# Altium footprint library RD15HVF1.PcbLib: 2 footprints
Each footprint in its own frame and in the unit in brackets; x right, y up, seen from the top. Pads: shape width x height; smd on the part's side, far side on the other; paste and mask are expansions set on the pad; w line width, h text height; cw(c..) or ccw(c..) is an arc to the next point about the centre after c.
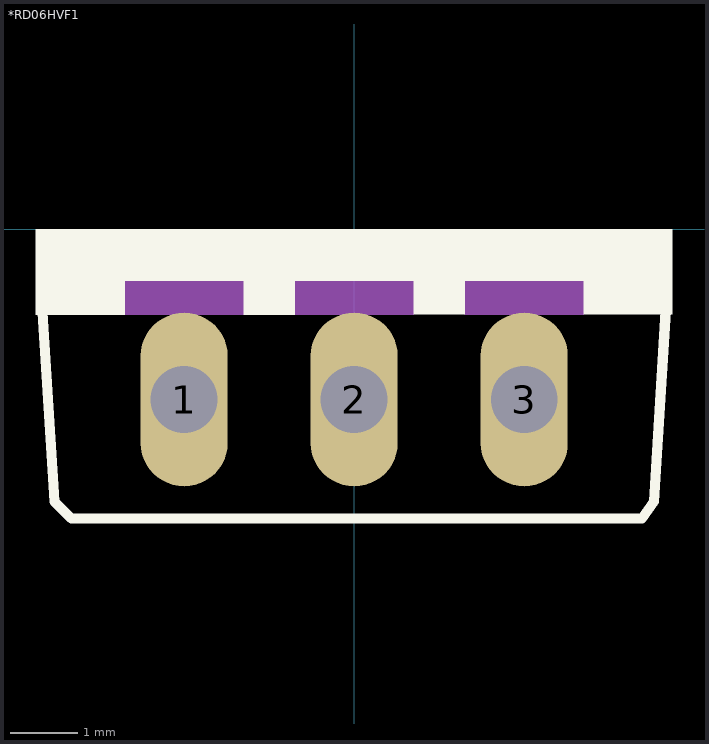
[diagram p0: the footprints below, top view; thin cyan lines are the x and y axes]

## *RD06HVF1 [mm]
pads (3):
  oval 1.3x2.6 hole 1: 1(-2.54,-2.54) 2(0,-2.54) 3(2.54,-2.54)
Top Overlay:
  region: 3.43,-0.762 4.75,-0.762 4.75,-1.27 3.43,-1.27
  region: 0.889,-0.762 1.651,-0.762 1.651,-1.27 0.889,-1.27
  region: -1.652,-0.762 -0.889,-0.762 -0.889,-1.271 -1.652,-1.271
  region: -4.756,-0.762 -3.429,-0.762 -3.429,-1.272 -4.756,-1.272
  region: -4.753,0 4.75,0 4.75,-0.763 -4.753,-0.763
  lines w0.152: -4.655,-1.243 -4.478,-4.064 -4.224,-4.318 4.299,-4.318 4.478,-4.064 4.655,-1.218
Mechanical 4:
  region: 1.652,-0.762 3.429,-0.762 3.429,-1.27 1.652,-1.27
  region: -0.89,-0.762 0.889,-0.762 0.889,-1.271 -0.89,-1.271
  region: -3.433,-0.762 -1.651,-0.762 -1.651,-1.272 -3.433,-1.272
  region: 1.652,-0.762 3.429,-0.762 3.429,-1.27 1.652,-1.27
  region: -0.89,-0.762 0.889,-0.762 0.889,-1.271 -0.89,-1.271
  region: -3.433,-0.762 -1.651,-0.762 -1.651,-1.272 -3.433,-1.272

## PCBComponent_1 [mm]